# Altium schematic symbol library B0505S.SchLib: 1 symbol
Pins are listed as number, name and electrical type; pins without a type are passive.

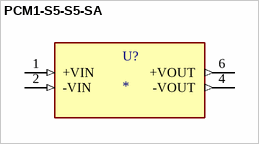
[diagram p0: symbol PCM1-S5-S5-SA]

## PCM1-S5-S5-SA
designator U?
1 W, 1:1 Input Voltage Range, Single unregulated Output, SIP 7, 1,000 Isolation (Vdc), Dc-Dc Converter; MF: CUI Inc.; MP: PCM1-S5-S5-SA; SnapEDA_Link: https://www.snapeda.com/parts/PCM1-S5-S5-SA/CUI/view-part/?ref=snap; Package: SIP-7 CUI; Value: *; CUI_purchase_URL: https://www.cui.com/product/dc-dc-converters/isolated/pcm1-sa-series?utm_source=snapeda.com&utm_medium=referral&utm_campaign=snapedaBOM; Check_prices: https://www.snapeda.com/parts/PCM1-S5-S5-SA/CUI/view-part/?ref=eda
footprint CONV_PCM1-S5-S5-SA
pins: 1 +VIN (in), 2 -VIN (in), 4 -VOUT (out), 6 +VOUT (out)